# EAGLE library part ICS-43432 (library mic)
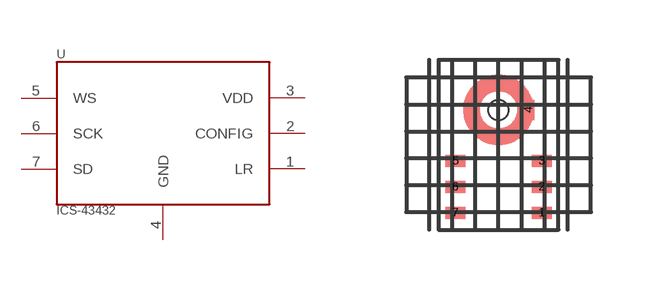
[diagram p1: symbol with the pads of ICS-43432; footprint ICS-43432]

Designator prefix U

## ICS-43432  [ICS-43432]
1  LR
2  CONFIG
3  VDD
4  GND
5  WS
6  SCK
7  SD

## Footprint ICS-43432 (pad centres in mm)
smd 0.5 x 0.3: 1 1.08,-2.575; 2 1.08,-1.925; 3 1.08,-1.275; 5 -1.08,-1.275; 6 -1.08,-1.925; 7 -1.08,-2.575
smd 0.3 x 0.5: 4 0.75,0
hole 0.5 at 0,0